# Altium schematic symbol library ESP32-CAM.SchLib: 1 symbol
Pins are listed as number, name and electrical type; pins without a type are passive.

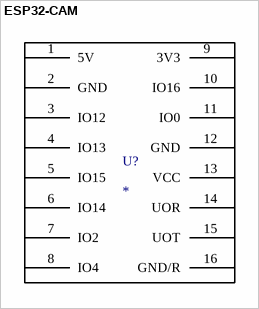
[diagram p0: symbol ESP32-CAM]

## ESP32-CAM
designator U?
pins: 1 5V, 2 GND, 3 IO12, 4 IO13, 5 IO15, 6 IO14, 7 IO2, 8 IO4, 9 3V3, 10 IO16, 11 IO0, 12 GND, 13 VCC, 14 UOR, 15 UOT, 16 GND/R